# Altium schematic symbol library halo-electronics.SCHLIB: 2 symbols
Pins are listed as number, name and electrical type; pins without a type are passive.

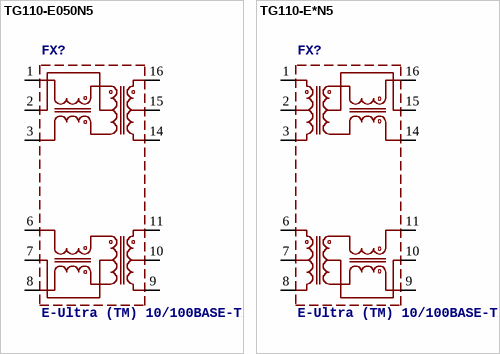
[diagram p0: symbols TG110-E050N5 to TG110-E*N5]

## TG110-E050N5
designator FX?, comment E-Ultra (TM) 10/100BASE-TX SOIC-16 Fast Ethernet Magnetic Modules   Source: www.haloelectronics.com .. e-ultra.pdf
footprint N5
pins: 1, 2, 3, 6, 7, 8, 9, 10, 11, 14, 15, 16

## TG110-E*N5
designator FX?, comment E-Ultra (TM) 10/100BASE-TX SOIC-16 Fast Ethernet Magnetic Modules   Source: www.haloelectronics.com .. e-ultra.pdf
footprint N5
pins: 1, 2, 3, 6, 7, 8, 9, 10, 11, 14, 15, 16